# Altium footprint library DYS080_V5.PcbLib: 35 footprints (part 3 of 3)
Each footprint in its own frame and in the unit in brackets; x right, y up, seen from the top. Pads: shape width x height; smd on the part's side, far side on the other; paste and mask are expansions set on the pad; w line width, h text height; cw(c..) or ccw(c..) is an arc to the next point about the centre after c.
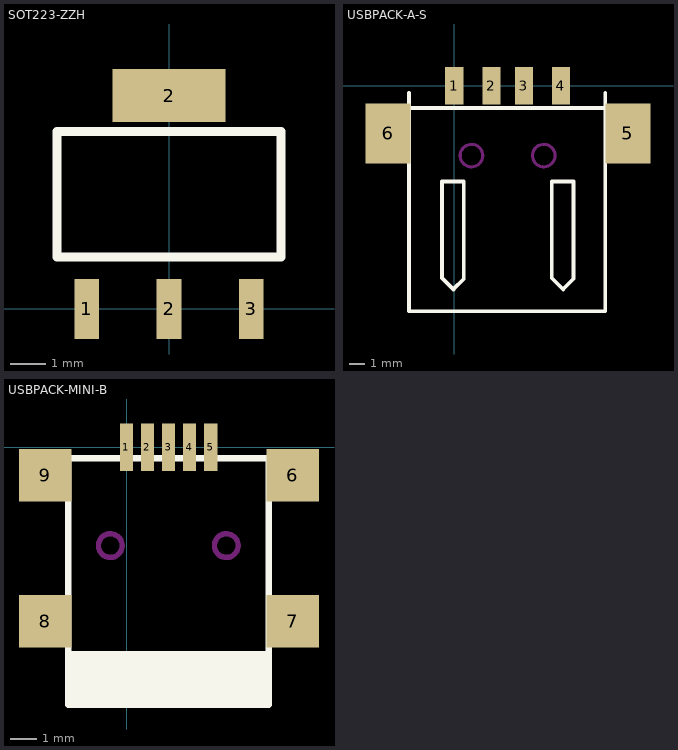
[diagram p2: the footprints below, top view; thin cyan lines are the x and y axes]

## SOT223-ZZH [mm]
pads (4):
  rect 0.7x1.7 smd: 1(-2.341,-0.005) 2(-0.011,-0.005) 3(2.319,-0.005)
  rect 3.2x1.5 smd: 2(-0.011,6.041)
Top Overlay:
  lines w0.254: -3.186,1.469 3.164,1.469 3.164,5.025 -3.186,5.025 -3.186,1.469

## USBPACK-A-S [mm]
pads (6):
  rect 1.2x2.5 smd: 1(-0.011,-0.005) 2(2.452,-0.005) 3(4.611,-0.005) 4(7.069,-0.005)
  rect 3x4 smd: 5(11.52,-3.18) 6(-4.406,-3.18)
Top Overlay:
  lines w0.254: -3.009,-1.487 10.022,-1.487 ; -3.009,-0.487 -3.009,-14.991 10.022,-14.991 10.022,-0.487 ; -0.824,-12.781 -0.062,-13.543 -0.062,-13.517 0.624,-12.832 0.624,-6.38 -0.824,-6.38 -0.824,-12.781 ; 6.466,-12.781 7.228,-13.543 7.228,-13.517 7.913,-12.832 7.913,-6.38 6.466,-6.38 6.466,-12.781
Keep-Out Layer:
  circle w0.203: c1.132,-4.653 r0.75
  circle w0.203: c5.932,-4.653 r0.75

## USBPACK-MINI-B [mm]
pads (9):
  rect 0.5x1.8 smd: 1(-0.011,-0.005) 2(0.789,-0.005) 3(1.589,-0.005) 4(2.389,-0.005) 5(3.189,-0.005)
  rect 2x2 smd: 6(6.299,-1.065) 7(6.299,-6.605) 8(-3.085,-6.609) 9(-3.085,-1.071)
Top Overlay:
  region: 5.389,-7.745 -2.211,-7.745 -2.211,-9.765 5.389,-9.765
  lines w0.254: -2.211,-9.765 -2.211,-0.425 5.389,-0.425 5.389,-9.765 -2.211,-9.765
Keep-Out Layer:
  circle w0.203: c3.78,-3.736 r0.45
  circle w0.203: c-0.62,-3.736 r0.45